# Altium integrated library IP5306.IntLib: 1 symbol
Pins are listed as number, name and electrical type; pins without a type are passive.

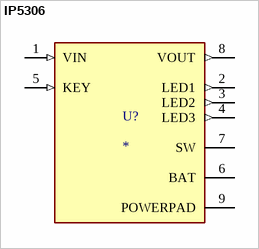
[diagram p0: symbol IP5306]

## IP5306
designator U?
Fully-Integrated Power Bank System-On-Chip with 2.1A charger, 2.4A discharger; MF: Injoinic; MP: IP5306; SnapEDA_Link: https://www.snapeda.com/parts/IP5306/Injoinic/view-part/?ref=snap; Package: SOIC-4 INJOINIC; Value: *; Check_prices: https://www.snapeda.com/parts/IP5306/Injoinic/view-part/?ref=eda
footprint SOP127P600X165-9N
pins: 1 VIN (in), 2 LED1 (out), 3 LED2 (out), 4 LED3 (out), 5 KEY (in), 6 BAT, 7 SW, 8 VOUT (out), 9 POWERPAD (power)